# EAGLE library part INA240 (library IC & Transistor)
High and Low Side, Bidirectional, Zero-Drift, Current-Sense Amplifier with Enhanced PWM Rejection Created by: Wai Weng
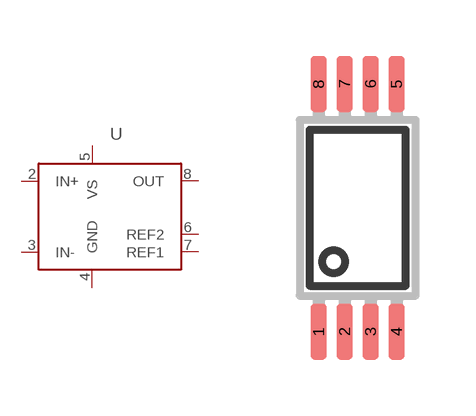
[diagram p65: symbol with the pads of SSOP-08; footprint SSOP-08]

Designator prefix U

## INA240 (DESC: S Current Shunt Monitor INA240 SSOP8; MF: Texas Instruments; MPN: INA240A1PWR)  [SSOP-08]
2  IN+
3  IN-
4  GND
5  VS
6  REF2
7  REF1
8  OUT

## Footprint SSOP-08 (pad centres in mm)
Shrink Small Outline Package (SSOP) Size: 2.9 x 4.4mm Lead Pitch: 0.65mm
smd 0.4 x 1.4: 1 -0.975,-3.1; 2 -0.325,-3.1; 3 0.325,-3.1; 4 0.975,-3.1; 5 0.975,3.1; 6 0.325,3.1; 7 -0.325,3.1; 8 -0.975,3.1